# EAGLE library part 691416500009 (library WR-TBL Spring Clamp)
WR-TBL Serie 4165 - 5.08 mm Screwless Vertical Entry KIND PROPERTIES Pitch 5.08 mm MATERIAL PROPERTIES Insulator Material PA6/66; PA66 Insulator Flammability Rating UL94 V-0 Insulator Color Grey Contact Material INOX Steel Wire Guard Material Copper Alloy GENERAL INFORMATION Operating Temperature -30 up to +120 °C Compliance Lead free / RoHS; RoHS ELECTRICAL PROPERTIES IR UL 10 A IR VDE 16 A Working Voltage [UL] 300 V (AC) Working Voltage [VDE] 450 V (AC) Withstanding Voltage [UL] 1600 V (AC) Withstanding Voltage [cULus] 1600 V (AC) Withstanding Voltage [VDE] 2000 V (AC) Contact Resistance 20 mΩ Contact Resistance [cULus] 20 mΩ Contact Resistance [VDE] 20 mΩ Mechanical Properties Wire Strip Length 7; 7 (mm) Wire Properties Solid Wire Section (AWG) 16 to 30 (AWG) Solid Wire Section (Metric) 1.31 to 0.0509 (mm²) Stranded Wire Section (AWG) 16 to 30 (AWG) Stranded Wire Section (Metric) 1.31 to 0.0509 (mm²) CERTIFICATION cULus Approval E315414 UL Approval E150391; E150931 VDE Approval 40023402 Packaging Properties Packaging Box Details see: www.we-online.com/en/components/products/TBL_5_08_4165_SCREWLESS_VERTICAL_ENTRY_6914165000xx/ Updated by Ella Wu 2019-12-31 2019(C) Würth Elektronik
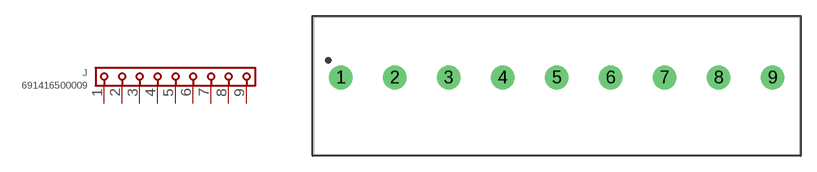
[diagram p70: symbol with the pads of 691416500009; footprint 691416500009]

Designator prefix J

## 691416500009 (APPLICATION: Screwless; DATASHEET: https://www.we-online.com/redexpert/spec/691416500009?ae; IR-UL: 10A; MODULARITY: No; MOUNT: THT; PART-NUMBER: 691416500009; PINS: 9; PITCH: 5.08mm; TYPE: Vertical; VALUE: 691416500009; WIRE: 16 to 30 (AWG) 1.31 to 0.0509 (mm²); WORKING-VOLTAGE-UL: 300V (AC))  [691416500009]
1  1  pas
2  2  pas
3  3  pas
4  4  pas
5  5  pas
6  6  pas
7  7  pas
8  8  pas
9  9  pas

## Footprint 691416500009 (pad centres in mm)
WR-TBL Serie 4165 - 5.08 mm Screwless Vertical Entry Max Height = 12.5mm , Pitch 5.08mm , 9pins
drill 1.5: 1 -20.32,0; 2 -15.24,0; 3 -10.16,0; 4 -5.08,0; 5 0,0; 6 5.08,0; 7 10.16,0; 8 15.24,0; 9 20.32,0